# EAGLE library part I6A4W020A033V-000-R (library dc-dc-converter)
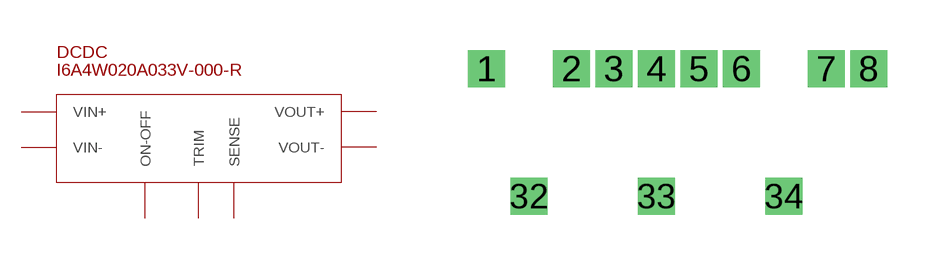
[diagram p12: symbol with the pads of I6A4W020A033V-000-R; footprint I6A4W020A033V-000-R]

Designator prefix DCDC

## I6A4W020A033V-000-R  [I6A4W020A033V-000-R]
1  VIN+
2  ON-OFF
3  VIN-
4  VOUT-
6  TRIM
7  SENSE
8  VOUT+

## Footprint I6A4W020A033V-000-R (pad centres in mm)
drill 0.6 square: 1 0,0; 2 2.54,0; 3 3.81,0; 4 5.08,0; 5 6.35,0; 6 7.62,0; 7 10.16,0; 8 11.43,0; 32 1.27,-3.81; 33 5.08,-3.81; 34 8.89,-3.81